# EAGLE library part PINHEAD_0.05_RECEPTACLE_2X3 (library Oles komponentbibliotek)
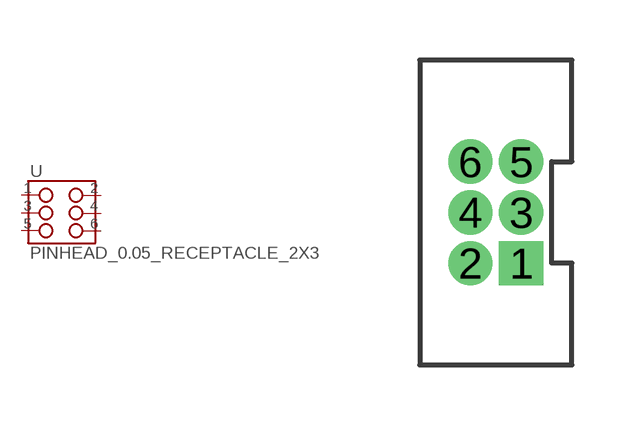
[diagram p67: symbol with the pads of PINHEAD_0.05_RECEPTACLE_2X3; footprint PINHEAD_0.05_RECEPTACLE_2X3]

Designator prefix -

## PINHEAD_0.05_RECEPTACLE_2X3  [PINHEAD_0.05_RECEPTACLE_2X3]
1  P$1
2  P$2
3  P$3
4  P$4
5  P$5
6  P$6

## Footprint PINHEAD_0.05_RECEPTACLE_2X3 (pad centres in mm)
drill 0.6 pad 1.016 square: 1 1.27,-1.27
drill 0.6 pad 1.016: 2 0,-1.27; 3 1.27,0; 4 0,0; 5 1.27,1.27; 6 0,1.27